# Altium schematic symbol library MAX98090.SchLib: 1 symbol
Pins are listed as number, name and electrical type; pins without a type are passive.

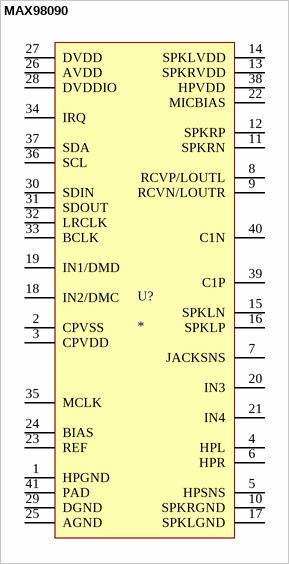
[diagram p0: symbol MAX98090]

## MAX98090
designator U?
pins: 1 HPGND, 2 CPVSS, 3 CPVDD, 4 HPL, 5 HPSNS, 6 HPR, 7 JACKSNS, 8 RCVP/LOUTL, 9 RCVN/LOUTR, 10 SPKRGND, 11 SPKRN, 12 SPKRP, 13 SPKRVDD, 14 SPKLVDD, 15 SPKLN, 16 SPKLP, 17 SPKLGND, 18 IN2/DMC, 19 IN1/DMD, 20 IN3, 21 IN4, 22 MICBIAS, 23 REF, 24 BIAS, 25 AGND, 26 AVDD, 27 DVDD, 28 DVDDIO, 29 DGND, 30 SDIN, 31 SDOUT, 32 LRCLK, 33 BCLK, 34 IRQ, 35 MCLK, 36 SCL, 37 SDA, 38 HPVDD, 39 C1P, 40 C1N, 41 PAD